# Altium integrated library WE-FLEX+ Flexible Transformer for DC_DC Converter.IntLib: 15 symbols
Pins are listed as number, name and electrical type; pins without a type are passive.

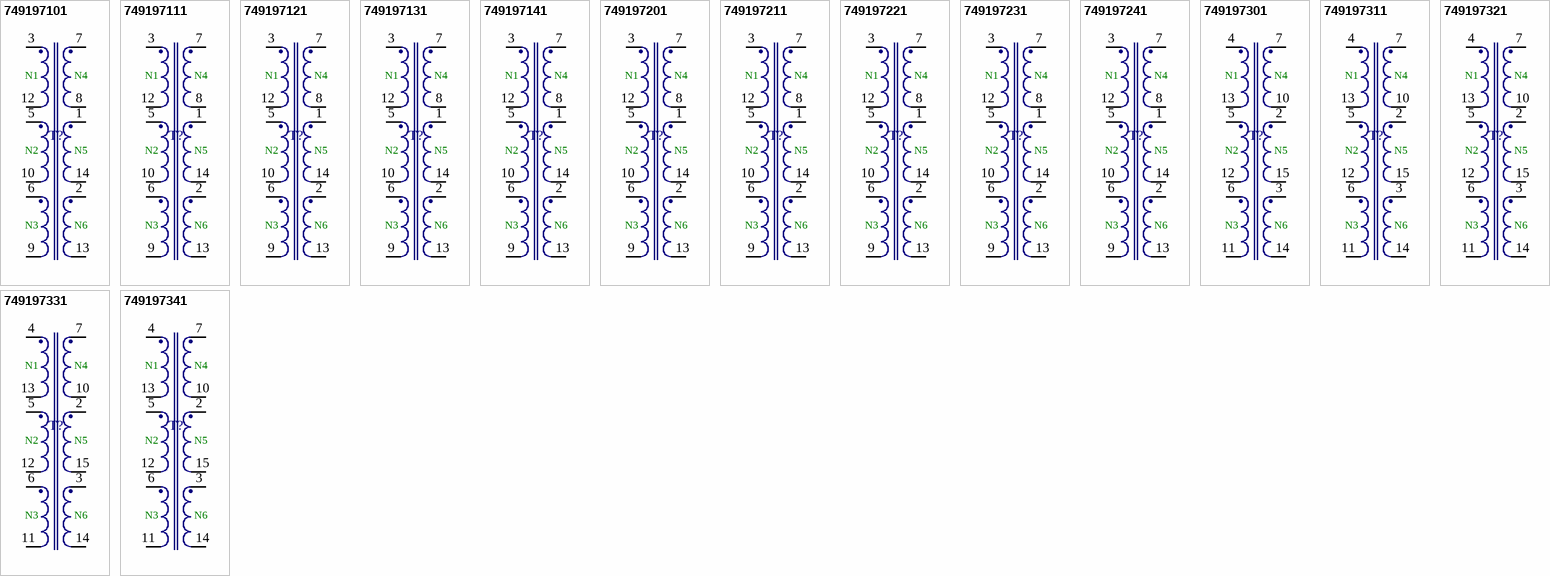
[diagram p0: symbols 749197101 to 749197341]

## 749197101
designator T?
Flexible Transformer for DC/DC Converter WE-FLEX+ , L=284µH; PartNumber: 749197101; Lbase: 284µH; PackageReference: ETD29; ComponentLink1Description: Manufacturer URL; ComponentLink1URL: http://www.we-online.com; ComponentLink2Description: Datasheet; ComponentLink2URL: http://www.we-online.de/katalog/media/pdf/749197101.pdf
footprint ETD29 (THT Transformer, 14-Leads, Body 37.21 x 35.56mm)
pins: 1, 2, 3, 5, 6, 7, 8, 9, 10, 12, 13, 14
text: N1; N4; N2; N5; N3; N6

## 749197111
designator T?
Flexible Transformer for DC/DC Converter WE-FLEX+, L=75.1µH; PartNumber: 749197111; Lbase: 75.1µH; PackageReference: ETD29; ComponentLink1Description: Manufacturer URL; ComponentLink1URL: http://www.we-online.com; ComponentLink2Description: Datasheet; ComponentLink2URL: http://www.we-online.de/katalog/media/pdf/749197111.pdf
footprint ETD29 (THT Transformer, 14-Leads, Body 37.21 x 35.56mm)
pins: 1, 2, 3, 5, 6, 7, 8, 9, 10, 12, 13, 14
text: N1; N4; N2; N5; N3; N6

## 749197121
designator T?
Flexible Transformer for DC/DC Converter WE-FLEX+, L=46.3µH; PartNumber: 749197121; Lbase: 46.3µH; PackageReference: ETD29; ComponentLink1Description: Manufacturer URL; ComponentLink1URL: http://www.we-online.com; ComponentLink2Description: Datasheet; ComponentLink2URL: http://www.we-online.de/katalog/media/pdf/749197121.pdf
footprint ETD29 (THT Transformer, 14-Leads, Body 37.21 x 35.56mm)
pins: 1, 2, 3, 5, 6, 7, 8, 9, 10, 12, 13, 14
text: N1; N4; N2; N5; N3; N6

## 749197131
designator T?
Flexible Transformer for DC/DC Converter WE-FLEX+ , L=24.3µH; PartNumber: 749197131; Lbase: 24.3µH; PackageReference: ETD29; ComponentLink1Description: Manufacturer URL; ComponentLink1URL: http://www.we-online.com; ComponentLink2Description: Datasheet; ComponentLink2URL: http://www.we-online.de/katalog/media/pdf/749197131.pdf
footprint ETD29 (THT Transformer, 14-Leads, Body 37.21 x 35.56mm)
pins: 1, 2, 3, 5, 6, 7, 8, 9, 10, 12, 13, 14
text: N1; N4; N2; N5; N3; N6

## 749197141
designator T?
Flexible Transformer for DC/DC Converter WE-FLEX+, L=15µH; PartNumber: 749197141; Lbase: 15µH; PackageReference: ETD29; ComponentLink1Description: Manufacturer URL; ComponentLink1URL: http://www.we-online.com; ComponentLink2Description: Datasheet; ComponentLink2URL: http://www.we-online.de/katalog/media/pdf/749197141.pdf
footprint ETD29 (THT Transformer, 14-Leads, Body 37.21 x 35.56mm)
pins: 1, 2, 3, 5, 6, 7, 8, 9, 10, 12, 13, 14
text: N1; N4; N2; N5; N3; N6

## 749197201
designator T?
Flexible Transformer for DC/DC Converter WE-FLEX+, L=374.4µH; PartNumber: 749197201; PackageReference: ETD34; Lbase: 374.4µH; ComponentLink1Description: Manufacturer URL; ComponentLink1URL: http://www.we-online.com; ComponentLink2Description: Datasheet; ComponentLink2URL: http://www.we-online.de/katalog/media/pdf/749197201.pdf
footprint ETD34 (THT Transformer, 14-Leads, Body 40.39 x 39.62mm)
pins: 1, 2, 3, 5, 6, 7, 8, 9, 10, 12, 13, 14
text: N1; N4; N2; N5; N3; N6

## 749197211
designator T?
Flexible Transformer for DC/DC Converter WE-FLEX+, L=113.8µH; PartNumber: 749197211; PackageReference: ETD34; Lbase: 113.8µH; ComponentLink1Description: Manufacturer URL; ComponentLink1URL: http://www.we-online.com; ComponentLink2Description: Datasheet; ComponentLink2URL: http://www.we-online.de/katalog/media/pdf/749197211.pdf
footprint ETD34 (THT Transformer, 14-Leads, Body 40.39 x 39.62mm)
pins: 1, 2, 3, 5, 6, 7, 8, 9, 10, 12, 13, 14
text: N1; N4; N2; N5; N3; N6

## 749197221
designator T?
Flexible Transformer for DC/DC Converter WE-FLEX+, L=69.4µH; PartNumber: 749197221; Lbase: 69.4µH; PackageReference: ETD34; ComponentLink1Description: Manufacturer URL; ComponentLink1URL: http://www.we-online.com; ComponentLink2Description: Datasheet; ComponentLink2URL: http://www.we-online.de/katalog/media/pdf/749197221.pdf
footprint ETD34 (THT Transformer, 14-Leads, Body 40.39 x 39.62mm)
pins: 1, 2, 3, 5, 6, 7, 8, 9, 10, 12, 13, 14
text: N1; N4; N2; N5; N3; N6

## 749197231
designator T?
Flexible Transformer for DC/DC Converter WE-FLEX+, L=36.1µH; PartNumber: 749197231; Lbase: 36.1µH; PackageReference: ETD34; ComponentLink1Description: Manufacturer URL; ComponentLink1URL: http://www.we-online.com; ComponentLink2Description: Datasheet; ComponentLink2URL: http://www.we-online.de/katalog/media/pdf/749197231.pdf
footprint ETD34 (THT Transformer, 14-Leads, Body 40.39 x 39.62mm)
pins: 1, 2, 3, 5, 6, 7, 8, 9, 10, 12, 13, 14
text: N1; N4; N2; N5; N3; N6

## 749197241
designator T?
Flexible Transformer for DC/DC Converter WE-FLEX+, L=22µH; PartNumber: 749197241; Lbase: 22µH; PackageReference: ETD34; ComponentLink1Description: Manufacturer URL; ComponentLink1URL: http://www.we-online.com; ComponentLink2Description: Datasheet; ComponentLink2URL: http://www.we-online.de/katalog/media/pdf/749197241.pdf
footprint ETD34 (THT Transformer, 14-Leads, Body 40.39 x 39.62mm)
pins: 1, 2, 3, 5, 6, 7, 8, 9, 10, 12, 13, 14
text: N1; N4; N2; N5; N3; N6

## 749197301
designator T?
Flexible Transformer for DC/DC Converter WE-FLEX+, L=326.7µH; PartNumber: 749197301; PackageReference: ETD39; Lbase: 326.7µH; ComponentLink1Description: Manufacturer URL; ComponentLink1URL: http://www.we-online.com; ComponentLink2Description: Datasheet; ComponentLink2URL: http://www.we-online.de/katalog/media/pdf/749197301.pdf
footprint ETD39 (THT Transformer, 16-Leads, Body 45.72 x 44.45mm)
pins: 2, 3, 4, 5, 6, 7, 10, 11, 12, 13, 14, 15
text: N1; N4; N2; N5; N3; N6

## 749197311
designator T?
Flexible Transformer for DC/DC Converter WE-FLEX+, L=128.5µH; PartNumber: 749197311; PackageReference: ETD39; Lbase: 128.5µH; ComponentLink1Description: Manufacturer URL; ComponentLink1URL: http://www.we-online.com; ComponentLink2Description: Datasheet; ComponentLink2URL: http://www.we-online.de/katalog/media/pdf/749197311.pdf
footprint ETD39 (THT Transformer, 16-Leads, Body 45.72 x 44.45mm)
pins: 2, 3, 4, 5, 6, 7, 10, 11, 12, 13, 14, 15
text: N1; N4; N2; N5; N3; N6

## 749197321
designator T?
Flexible Transformer for DC/DC Converter WE-FLEX+, L=77.3µH; PartNumber: 749197321; Lbase: 77.3µH; PackageReference: ETD39; ComponentLink1Description: Manufacturer URL; ComponentLink1URL: http://www.we-online.com; ComponentLink2Description: Datasheet; ComponentLink2URL: http://www.we-online.de/katalog/media/pdf/749197321.pdf
footprint ETD39 (THT Transformer, 16-Leads, Body 45.72 x 44.45mm)
pins: 2, 3, 4, 5, 6, 7, 10, 11, 12, 13, 14, 15
text: N1; N4; N2; N5; N3; N6

## 749197331
designator T?
Flexible Transformer for DC/DC Converter WE-FLEX+, L=39.4µH; PartNumber: 749197331; Lbase: 39.4µH; PackageReference: ETD39; ComponentLink1Description: Manufacturer URL; ComponentLink1URL: http://www.we-online.com; ComponentLink2Description: Datasheet; ComponentLink2URL: http://www.we-online.de/katalog/media/pdf/749197331.pdf
footprint ETD39 (THT Transformer, 16-Leads, Body 45.72 x 44.45mm)
pins: 2, 3, 4, 5, 6, 7, 10, 11, 12, 13, 14, 15
text: N1; N4; N2; N5; N3; N6

## 749197341
designator T?
Flexible Transformer for DC/DC Converter WE-FLEX+, L=23.7µH; PartNumber: 749197341; Lbase: 23.7µH; PackageReference: ETD39; ComponentLink1Description: Manufacturer URL; ComponentLink1URL: http://www.we-online.com; ComponentLink2Description: Datasheet; ComponentLink2URL: http://www.we-online.de/katalog/media/pdf/749197341.pdf
footprint ETD39 (THT Transformer, 16-Leads, Body 45.72 x 44.45mm)
pins: 2, 3, 4, 5, 6, 7, 10, 11, 12, 13, 14, 15
text: N1; N4; N2; N5; N3; N6